# Altium schematic symbol library TS3USB3200.SchLib: 1 symbol
Pins are listed as number, name and electrical type; pins without a type are passive.

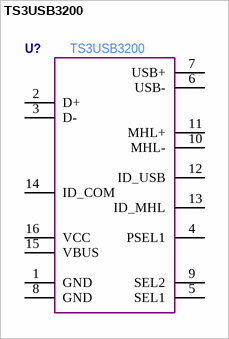
[diagram p0: symbol TS3USB3200]

## TS3USB3200
designator U?  Manufacturer Part Number: TS3USB3200  (hidden comment: *)
pins: 1 GND, 2 D+, 3 D-, 4 PSEL1, 5 SEL1, 6 USB-, 7 USB+, 8 GND, 9 SEL2, 10 MHL-, 11 MHL+, 12 ID_USB, 13 ID_MHL, 14 ID_COM, 15 VBUS, 16 VCC